# Altium integrated library PCB_STM32F4.IntLib: 74 symbols
Pins are listed as number, name and electrical type; pins without a type are passive.

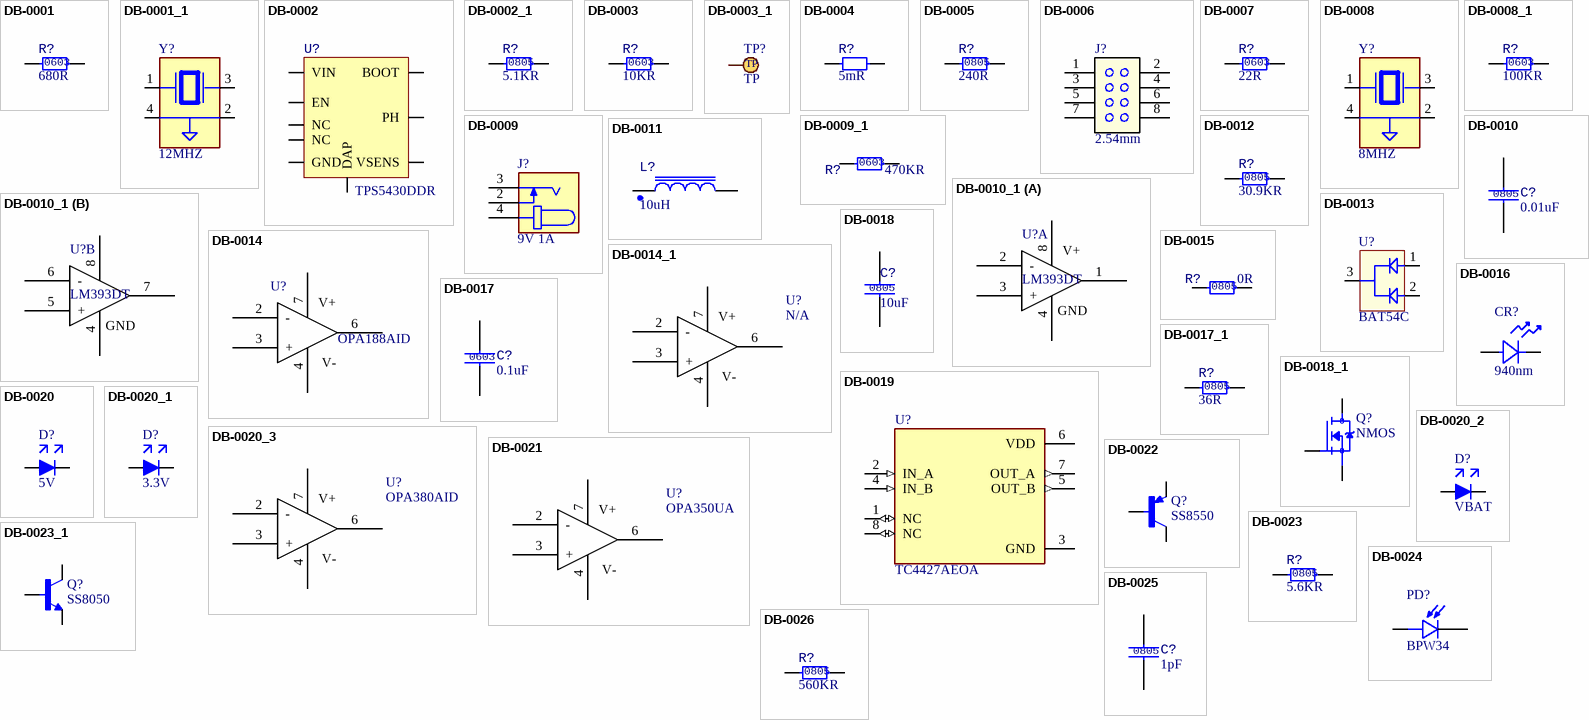
[diagram p0: symbols DB-0001 to DB-0026]

## DB-0001
designator R?, comment Size: 0603  (hidden comment: 680R)
RESISTOR SMD 680R OHM 5% 100mW 0603; Power Rate: 100mW; Design Item ID: DB-0001; Type: RESISTOR; Tolerance: 5%; Footprint Type: SMD; Supplier: THEGIOIIC; Supplier Part Number: Điện Trở 680 Ohm 0603 5%; Supplier Link: https://www.thegioiic.com/dien-tro-680-ohm-0603-5-; Value: 680R
footprint RESC 0603(1608) SMD
pins: 1, 2

## DB-0001_1
designator Y?, comment value 12MHZ  (hidden comment: XTAL_12Mhz)
Design Item ID: DB-0001; Type: XTAL; Footprint Type: SMD; Size: 5033; Supplier: THEGIOIIC; Supplier Link: https://www.thegioiic.com/thach-anh-12mhz-5032-4-chan-smd
footprint XTAL_5032
pins: 1, 2 GND (power), 3 2, 4 GND

## DB-0002
designator U?, comment value TPS5430DDR  (hidden comment: TPS5430DDAR)
TPS543x 3A, Wide Input Range, Step-Down Converter; Footprint Path: .\Database_Library\Library.PcbLib; Design Item ID: DB-0002; Type: IC; Power Rate: N/A; Tolerance: N/A; Footprint Type: SMD; Size: 8-SOIC; Supplier: THEGIOIIC; Supplier Part Number: TPS5430DDAR IC Điều Chỉnh Giảm Áp 3A 8-SOIC; Supplier Link: https://www.thegioiic.com/tps5430ddar-ic-dieu-chinh-giam-ap-3a-8-soic
footprint 8-SOIC
pins: 1 BOOT, 2 NC, 3 NC, 4 VSENS, 5 EN, 6 GND, 7 VIN, 8 PH, 9 DAP

## DB-0002_1
designator R?, comment Size: 0805  (hidden comment: 5.1KR)
Power Rate: *; Design Item ID: DB-0002; Value: 5.1KR; Type: RESISTOR; Footprint Type: SMD; Supplier: THEGIOIIC; Supplier Link: https://www.thegioiic.com/dien-tro-5-1-kohm-0805-1-
footprint RESC 0805 SMD
pins: 1, 2

## DB-0003
designator R?, comment Size: 0603  (hidden comment: 10KR)
RESISTOR SMD 10KR OHM 1% 100mW 0603; Power Rate: 100mW; Design Item ID: DB-0003; Value: 10KR; Type: RESISTOR; Tolerance: 1%; Footprint Type: SMD; Supplier: THEGIOIIC; Supplier Part Number: Điện Trở 10 KOhm 0603 1%; Supplier Link: https://www.thegioiic.com/dien-tro-10-kohm-0603-1-
footprint RESC 0603(1608) SMD
pins: 1, 2

## DB-0003_1
designator TP?, comment value TP  (hidden comment: TEST POINT)
Design Item ID: DB-0003; Type: TP; Footprint Type: THT; Size: 1P0
footprint TP_THT_1P0
pins: 1

## DB-0004
designator R?, comment 5mR
Power Rate: *; Size: ±1%; Design Item ID: DB-0004; Value: 5mR; Footprint Type: THT; Supplier: THEGIOIIC; Supplier Link: https://www.thegioiic.com/dien-tro-sense-0-005-ohm-5mr
footprint RS_P10_D1P5
pins: 1, 2

## DB-0005
designator R?, comment Size: 0805  (hidden comment: 240R)
RESISTOR SMD 240R OHM 1% 100mW 0805; Power Rate: 120mW; Design Item ID: DB-0005; Value: 240R; Type: RESISTOR; Tolerance: 1%; Footprint Type: SMD; Supplier: THEGIOIIC; Supplier Part Number: Điện Trở 240 Ohm 0805 1%; Supplier Link: https://www.thegioiic.com/dien-tro-240-ohm-0805-1-
footprint RESC 0805 SMD
pins: 1, 2

## DB-0006
designator J?, comment value 2.54mm  (hidden comment: HD_2X4_M_V)
Design Item ID: DB-0006; Type: HEADER; Footprint Type: THT; Size: HD_2X4_FM_RA; Supplier: THEGIOIIC; Supplier Link: https://www.thegioiic.com/hang-rao-duc-doi-2-54mm-80-chan-2-hang-cao-11-2mm-xuyen-lo-chan-ma-vang
footprint HD_2X4_2P54_M_V
pins: 1, 2, 3, 4, 5, 6, 7, 8

## DB-0007
designator R?, comment Size: 0603  (hidden comment: 22R)
Power Rate: *; Design Item ID: DB-0007; Value: 22R; Type: RESISTOR; Footprint Type: SMD; Supplier: THEGIOIIC; Supplier Link: https://www.thegioiic.com/dien-tro-22-ohm-0603-1-
footprint RESC 0603(1608) SMD
pins: 1, 2

## DB-0008
designator Y?, comment value 8MHZ  (hidden comment: XTAL_8Mhz)
Design Item ID: DB-0008; Type: XTAL; Footprint Type: SMD; Size: 5033; Supplier: THEGIOIIC; Supplier Link: https://www.thegioiic.com/thach-anh-12mhz-5032-4-chan-smd
footprint XTAL_5032
pins: 1, 2 GND (power), 3 2, 4 GND

## DB-0008_1
designator R?, comment Size: 0603  (hidden comment: 100KR)
RESISTOR SMD 100KR OHM 1% 100mW 0603; Power Rate: 100mW; Value: 100KR; Design Item ID: DB-0008; Type: RESISTOR; Tolerance: 1%; Footprint Type: SMD; Supplier: THEGIOIIC; Supplier Part Number: Điện Trở 100 KOhm 0603 1%; Supplier Link: https://www.thegioiic.com/dien-tro-100-kohm-0603-1-
footprint RESC 0603(1608) SMD
pins: 1, 2

## DB-0009
designator J?, comment 9V 1A
Design Item ID: DB-0009; Value: 9V 1A; Footprint Type: THT; Size: 5525
footprint PW_JACK_DC_5525
pins: 2 4, 3 5, 4 2

## DB-0009_1
designator R?, comment Size: 0603  (hidden comment: 470KR)
RESISTOR SMD 470KR OHM 1% 100mW 0603; Power Rate: 100mW; Design Item ID: DB-0009; Type: RESISTOR; Value: 470KR; Tolerance: 1%; Footprint Type: SMD; Supplier: THEGIOIIC; Supplier Part Number: Điện Trở 470 KOhm 0603 1%; Supplier Link: https://www.thegioiic.com/dien-tro-470-kohm-0603-1-
footprint RESC 0603(1608) SMD
pins: 1, 2

## DB-0010
designator C?, comment Size: 0805  (hidden comment: 0.01uF)
CAPACITOR SMD 0.01uF 50V 10% 0805; Value: 0.01uF; Footprint Path: .\Database_Library\Library.PcbLib; Design Item ID: DB-0010; Type: CAPACITOR; Power Rate: N/A; Tolerance: 10%; Footprint Type: SMD; Supplier: THEGIOIIC; Supplier Part Number: Tụ Gốm 0805 410nF 50V; Supplier Link: https://www.thegioiic.com/tu-gom-0805-10nf-50v
footprint CAPCER 0805 SMD
pins: 1, 2

## DB-0010_1
designator U?, comment LM393DT
Design Item ID: DB-0010; Value: LM393DT; Footprint Type: SMD; Size: 8-SOIC; Supplier: THEGIOIIC
footprint 8-SOIC-OPA
part A pins: 1 OUT 1, 2 -, 3 +, 4 GND, 8 VCC
part B pins: 4 GND, 5 +, 6 -, 7 OUT 2, 8 VCC
part A text: V+

## DB-0011
designator L?, comment 10uH
Cuộn Cảm Dán SMD 8D43-100 10uH 5.5A; Design Item ID: DB-0011; Value: 10uH; Footprint Type: SMD; Size: IND_8D43; Supplier: THEGIOIIC; Supplier Link: https://www.thegioiic.com/cuon-cam-dan-smd-8d43-100-10uh-5-5a
footprint IND_8D43
pins: 1, 2

## DB-0012
designator R?, comment Size: 0805  (hidden comment: 30.9KR)
Điện Trở 30.9 KOhm 0805 1%; Power Rate: *; Design Item ID: DB-0012; Value: 30.9KR; Type: RESISTOR; Footprint Type: SMD; Supplier: THEGIOIIC; Supplier Link: https://www.thegioiic.com/dien-tro-30-9-kohm-0805-1-
footprint RESC 0805 SMD
pins: 1, 2

## DB-0013
designator U?, comment BAT54C
DIODE ARRAY SCHOTTKY 30V SOT23-3; Design Item ID: DB-0013; Value: BAT54C; Type: DIODE SCHOTTKY; Footprint Type: SMD; Size: SOT23; Supplier: THEGIOIIC; Supplier Link: https://www.thegioiic.com/bat54c
footprint SOT23-3
pins: 1, 2, 3

## DB-0014
designator U?, comment OPA188AID
Zero-Drift Amplifier 1 Circuit Rail-to-Rail 8-SOIC; Design Item ID: DB-0014; Value: OPA188AID; Type: IC; Power Rate: N/A; Tolerance: N/A; Footprint Type: SMD; Size: 8-SOIC; Supplier: DIGIKEY; Supplier Part Number: OPA188AID; Supplier Link: https://www.digikey.com/en/products/detail/texas-instruments/OPA188AID/4146941
footprint 8-SOIC-OPA
pins: 2 -, 3 +, 4 GND, 6 OUT 1, 7 VCC
text: V+; V-

## DB-0014_1
designator U?, comment OPA188AID  (value not drawn)
Zero-Drift Amplifier 1 Circuit Rail-to-Rail 8-SOIC; Design Item ID: DB-0014; Value: N/A; Type: IC; Power Rate: N/A; Tolerance: N/A; Footprint Type: SMD; Size: 8-SOIC; Supplier: DIGIKEY; Supplier Part Number: OPA188AID; Supplier Link: https://www.digikey.com/en/products/detail/texas-instruments/OPA188AID/4146941
footprint 8-SOIC-OPA
pins: 2 -, 3 +, 4 GND, 6 OUT 1, 7 VCC
text: V+; V-

## DB-0015
designator R?, comment Size: 0805  (hidden comment: 0R)
Power Rate: *; Design Item ID: DB-0015; Value: 0R; Type: RESISTOR; Footprint Type: SMD; Supplier: THEGIOIIC; Supplier Link: https://www.thegioiic.com/san-pham/dien-tro-dan-smd?prid=21990
footprint RESC 0805 SMD
pins: 1, 2

## DB-0016
designator CR?, comment value 940nm  (hidden comment: LED IR 940nm)
Type: LED IR; Design Item ID: DB-0016; Footprint Type: DIP; Size: THT; Supplier: THEGIOIIC
footprint TSAL6100
pins: A, K

## DB-0017
designator C?, comment Size: 0603  (hidden comment: 0.1uF)
CAPACITOR SMD 0.1uF 50V 10% 0603; Value: 0.1uF; Design Item ID: DB-0017; Type: CAPACITOR; Power Rate: N/A; Tolerance: 10%; Footprint Type: SMD; Supplier: THEGIOIIC; Supplier Part Number: Tụ Gốm 0603 100nF (0.1uF) 25V; Supplier Link: https://www.thegioiic.com/tu-gom-0603-100nf-0-1uf-25v
footprint CAPCER 0805 SMD
pins: 1, 2

## DB-0017_1
designator R?, comment Size: 0805  (hidden comment: 36R)
Power Rate: *; Design Item ID: DB-0017; Value: 36R; Type: RESISTOR; Footprint Type: SMD; Supplier: THEGIOIIC; Supplier Link: https://www.thegioiic.com/dien-tro-36-ohm-0805-5-
footprint RESC 0805 SMD
pins: 1, 2

## DB-0018
designator C?, comment Size: 0805  (hidden comment: 10uF)
CAPACITOR SMD 10uF 25V 10% 0805; Design Item ID: DB-0018; Value: 10uF; Type: CAPACITOR; Power Rate: N/A; Tolerance: 10%; Footprint Type: SMD; Supplier: THEGIOIIC; Supplier Part Number: Tụ Gốm 0805 10uF 25V; Supplier Link: https://www.thegioiic.com/tu-gom-0805-10uf-25v
footprint CAPCER 0603 SMD
pins: 1, 2

## DB-0018_1
designator Q?, comment NMOS
LN2302LT1G MOSFET Kênh N 20V 2.3A SOT-23-3; Design Item ID: DB-0018; Value: NMOS; Type: MOSFET; Footprint Type: SMD; Size: SOT23; Supplier: THEGIOIIC
footprint SOT23-3
pins: 1 G, 2 S, 3 D

## DB-0019
designator U?, comment TC4427AEOA
Design Item ID: DB-0019; Value: TC4427AEOA; Type: IC DRV FET; Footprint Type: SMD; Size: 8-SOIC; Supplier: THEGIOIIC
footprint 8-SOIC-OPA
pins: 1 NC (io), 2 IN_A (in), 3 GND (power), 4 IN_B (in), 5 OUT_B (out), 6 VDD (power), 7 OUT_A (out), 8 NC (io)

## DB-0020
designator D?, comment value 5V  (hidden comment: LED_RED)
Size 2x1.2mm, điện áp 1.8-2.6VDC; Type: LED; Design Item ID: DB-0020; Power Rate: N/A; Tolerance: N/A; Footprint Type: SMD; Size: 0806; Supplier: THEGIOIIC; Supplier Part Number: LED Đỏ 0805 Dán SMD Trong Suốt Harvatek; Supplier Link: https://www.thegioiic.com/led-do-0805-dan-smd-trong-suot-harvatek
footprint LED 0805 SMD
pins: A, C K

## DB-0020_1
designator D?, comment value 3.3V  (hidden comment: LED_RED)
Size 2x1.2mm, điện áp 1.8-2.6VDC; Type: LED; Design Item ID: DB-0020; Power Rate: N/A; Tolerance: N/A; Footprint Type: SMD; Size: 0806; Supplier: THEGIOIIC; Supplier Part Number: LED Đỏ 0805 Dán SMD Trong Suốt Harvatek; Supplier Link: https://www.thegioiic.com/led-do-0805-dan-smd-trong-suot-harvatek
footprint LED 0805 SMD
pins: A, C K

## DB-0020_2
designator D?, comment value VBAT  (hidden comment: LED_RED)
Size 2x1.2mm, điện áp 1.8-2.6VDC; Type: LED; Design Item ID: DB-0020; Power Rate: N/A; Tolerance: N/A; Footprint Type: SMD; Size: 0806; Supplier: THEGIOIIC; Supplier Part Number: LED Đỏ 0805 Dán SMD Trong Suốt Harvatek; Supplier Link: https://www.thegioiic.com/led-do-0805-dan-smd-trong-suot-harvatek
footprint LED 0805 SMD
pins: A, C K

## DB-0020_3
designator U?, comment OPA380AID
Design Item ID: DB-0020; Value: OPA380AID; Footprint Type: SMD; Size: 8-SOIC
footprint 8-SOIC-OPA
pins: 2 -, 3 +, 4 GND, 6 OUT 1, 7 VCC
text: V+; V-

## DB-0021
designator U?, comment OPA350UA
Design Item ID: DB-0021; Value: OPA350UA; Footprint Type: SMD; Size: 8-SOIC
footprint 8-SOIC-OPA
pins: 2 -, 3 +, 4 GND, 6 OUT 1, 7 VCC
text: V+; V-

## DB-0022
designator Q?, comment SS8550
SS8550 Y2 Transistor PNP 25V 1.5A 3 Chân SOT-23; Type: BJT; Design Item ID: DB-0022; Value: SS8550; Footprint Type: SMD; Size: SOT23; Supplier: THEGIOIIC
footprint SOT23-3
pins: 1 B, 2 E, 3 C

## DB-0023
designator R?, comment Size: 0805  (hidden comment: 5.6KR)
RESISTOR SMD 5.6KR OHM 1% 125mW 0805; Power Rate: 125mW; Design Item ID: DB-0023; Value: 5.6KR; Type: RESISTOR; Tolerance: 1%; Footprint Type: SMD; Supplier: THEGIOIIC; Supplier Part Number: Điện Trở 5.6 KOhm 0805 1%; Supplier Link: https://www.thegioiic.com/dien-tro-5-6-kohm-0805-1-
footprint RESC 0805 SMD
pins: 1, 2

## DB-0023_1
designator Q?, comment SS8050
SS8050 Y1 Transistor NPN 25V 1.5A 3 Chân SOT-23; Type: BJT; Design Item ID: DB-0023; Value: SS8050; Footprint Type: SMD; Size: SOT23; Supplier: THEGIOIIC
footprint SOT23-3
pins: 1 B, 2 E, 3 C

## DB-0024
designator PD?, comment BPW34
Design Item ID: DB-0024; Value: BPW34; Type: PD; Footprint Type: DIP; Size: DIP-2
footprint DIP-2
pins: A, C

## DB-0025
designator C?, comment Size: 0805  (hidden comment: 1pF)
Design Item ID: DB-0025; Value: 1pF; Footprint Type: SMD; Supplier: THEGIOIIC
footprint CAPCER 0805 SMD
pins: 1, 2

## DB-0026
designator R?, comment Size: 0805  (hidden comment: 560KR)
Power Rate: *; Design Item ID: DB-0026; Value: 560KR; Footprint Type: SMD; Supplier: THEGIOIIC
footprint RESC 0805 SMD
pins: 1, 2

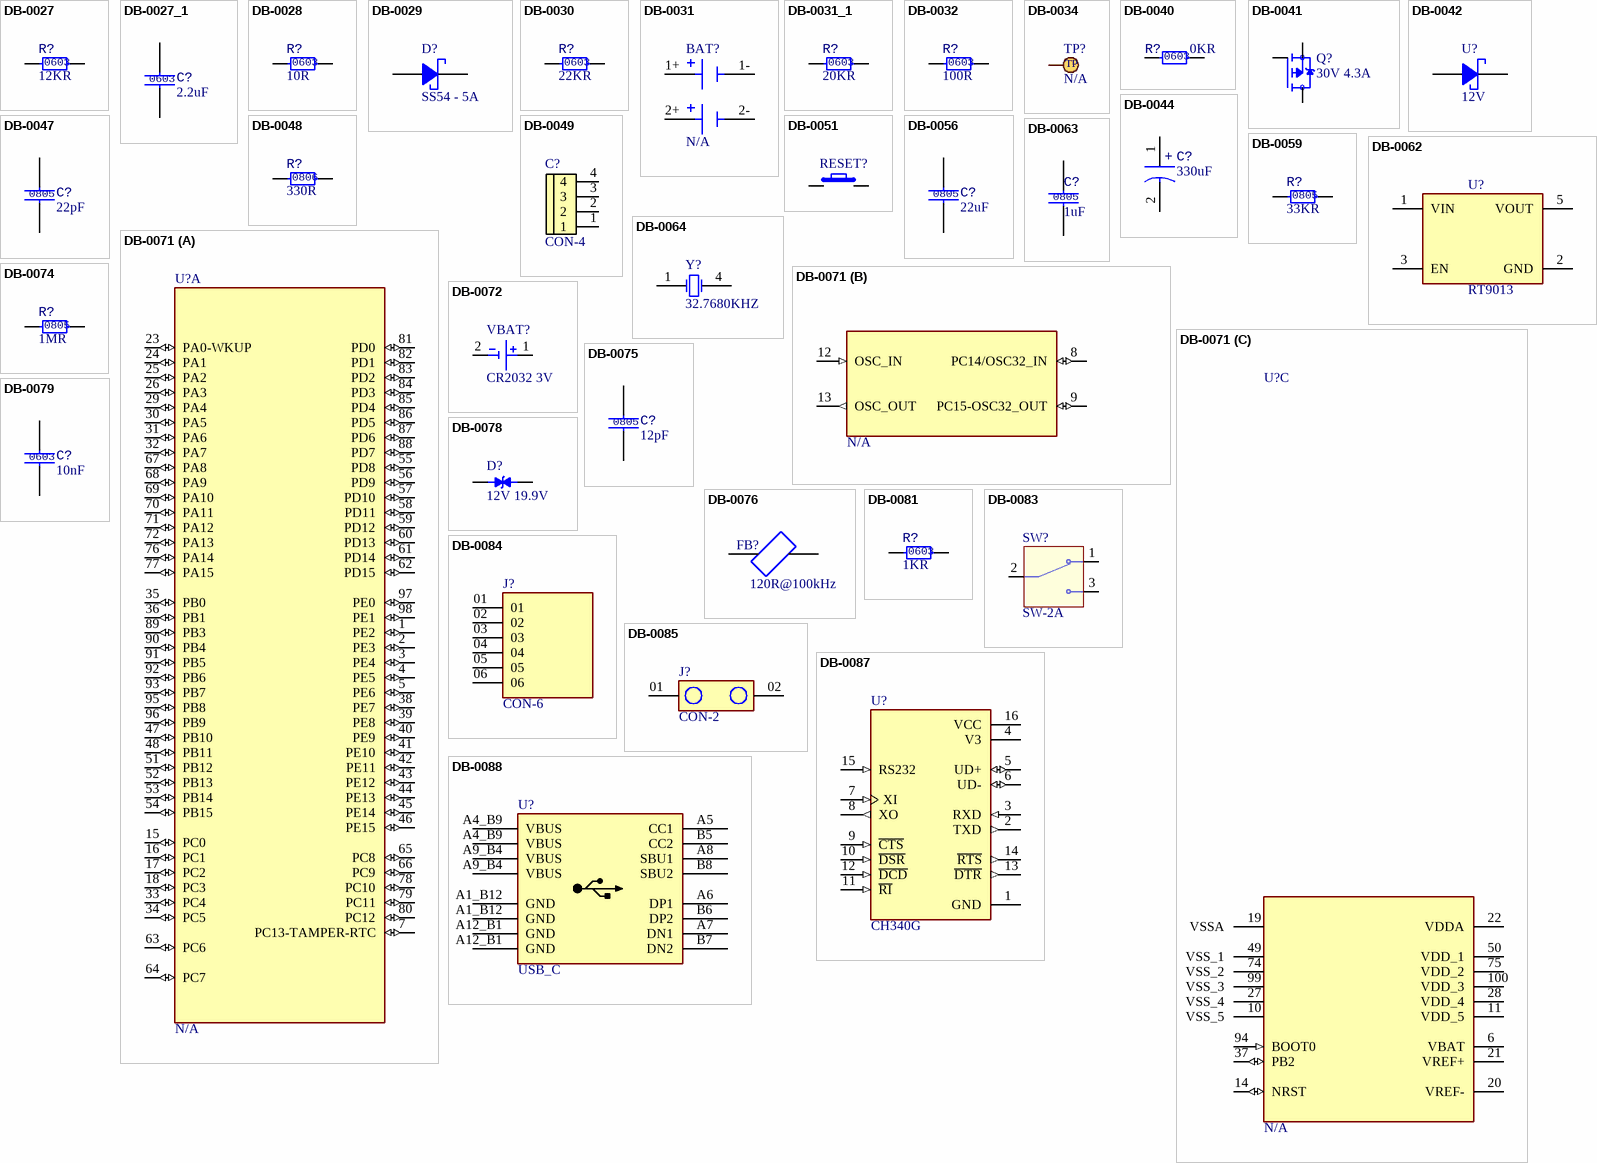
[diagram p1: symbols DB-0027 to DB-0088]

## DB-0027
designator R?, comment Size: 0603  (hidden comment: 12KR)
RESISTOR SMD 12KR OHM 1% 100mW 0603; Power Rate: 100mW; Design Item ID: DB-0027; Value: 12KR; Type: RESISTOR; Tolerance: 1%; Footprint Type: SMD; Supplier: THEGIOIIC; Supplier Part Number: Điện Trở 12 KOhm 0603 1%; Supplier Link: https://www.thegioiic.com/dien-tro-12-kohm-0603-1-
footprint RESC 0603(1608) SMD
pins: 1, 2

## DB-0027_1
designator C?, comment Size: 0603  (hidden comment: 2.2uF)
Tụ Gốm 0603 2.2uF 50V; Design Item ID: DB-0027; Value: 2.2uF; Footprint Type: SMD; Supplier: THEGIOIIC; Supplier Link: https://www.thegioiic.com/tu-gom-0603-2-2uf-50v
footprint CAPCER 0603 SMD
pins: 1, 2

## DB-0028
designator R?, comment Size: 0603  (hidden comment: 10R)
Điện Trở 10 Ohm 0603 1%; Power Rate: *; Design Item ID: DB-0028; Value: 10R; Type: RESISTOR; Footprint Type: SMD; Supplier: THEGIOIIC; Supplier Link: https://www.thegioiic.com/dien-tro-10-ohm-0603-1-
footprint RESC 0603(1608) SMD
pins: 1, 2

## DB-0029
designator D?, comment value SS54 - 5A  (hidden comment: SS54)
Design Item ID: DB-0029; Footprint Type: SMD
footprint DO-214AC
pins: 1 A, 2 K

## DB-0030
designator R?, comment Size: 0603  (hidden comment: 22KR)
Điện Trở 22 KOhm 0603 1%; Power Rate: *; Design Item ID: DB-0030; Value: 22KR; Type: RESISTOR; Footprint Type: SMD; Supplier: THEGIOIIC; Supplier Link: https://www.thegioiic.com/dien-tro-22-kohm-0603-1-
footprint RESC 0603(1608) SMD
pins: 1, 2

## DB-0031
designator BAT?, comment Dual_Battery_Case  (value not drawn)
Dual_Battery_Case_18650; Value: N/A; Footprint Path: .\Database_Library\Library.PcbLib; Design Item ID: DB-0031; Type: Case; Power Rate: N/A; Tolerance: N/A; Footprint Type: TFT; Supplier Link: https://www.thegioiic.com/de-pin-2x18650-han-pcb
footprint Dual_BAT_PCB
pins: 1+, 1-, 2+, 2-

## DB-0031_1
designator R?, comment Size: 0603  (hidden comment: 20KR)
Điện Trở 20 KOhm 0603 1%; Power Rate: *; Design Item ID: DB-0031; Value: 20KR; Type: RESISTOR; Footprint Type: SMD; Supplier: THEGIOIIC; Supplier Link: https://www.thegioiic.com/dien-tro-20-kohm-0603-1-
footprint RESC 0603(1608) SMD
pins: 1, 2

## DB-0032
designator R?, comment Size: 0603  (hidden comment: 100R)
Điện Trở 100 Ohm 0603 1%; Power Rate: *; Design Item ID: DB-0032; Value: 100R; Type: RESISTOR; Footprint Type: SMD; Supplier: THEGIOIIC; Supplier Link: https://www.thegioiic.com/dien-tro-100-ohm-0603-1-
footprint RESC 0603(1608) SMD
pins: 1, 2

## DB-0034
designator TP?, comment TEST_POINT  (value not drawn)
Value: N/A; Design Item ID: DB-0034; Power Rate: N/A; Tolerance: N/A; Footprint Type: PAD; Size: PAD
footprint Test_point
pins: 1
text: TP

## DB-0040
designator R?, comment value 0KR  Size: 0603  (hidden comment: 0R)
RESISTOR SMD 0KR OHM 1% 100mW 0603; Power Rate: 100mW; Design Item ID: DB-0040; Type: RESISTOR; Tolerance: 1%; Footprint Type: SMD; Supplier: THEGIOIIC; Supplier Part Number: Điện Trở 0 Ohm 0603 1%; Supplier Link: https://www.thegioiic.com/dien-tro-0-ohm-0603-1-
footprint RESC 0603(1608) SMD
pins: 1, 2

## DB-0041
designator Q?, comment value 30V 4.3A  (hidden comment: AO3407A)
AO3407A MOSFET Kênh P 30V 4.3A SOT-23-3; Type: P_MOSFET; Design Item ID: DB-0041; Power Rate: N/A; Tolerance: N/A; Footprint Type: SMD; Size: SOT23-3; Supplier: THEGIOIIC; Supplier Part Number: AO3407A MOSFET Kênh P 30V 4.3A SOT-23-3; Supplier Link: https://www.thegioiic.com/ao3407a-mosfet-kenh-p-30v-4-3a-sot-23-3
footprint SOT23-3
pins: 1 G, 2 S, 3 D

## DB-0042
designator U?, comment value 12V  (hidden comment: BZT52H)
BZT52H-C12 Diode Zener 12V 375mW SOD-123F; Tolerance: 5%; Design Item ID: DB-0042; Type: DIODE_ZE; Power Rate: 375mW; Footprint Type: SMD; Size: SOD-123F; Supplier: THEGIOIIC; Supplier Part Number: BZT52H-C12 Diode Zener 12V 375mW SOD-123F; Supplier Link: https://www.thegioiic.com/bzt52c5v1-diode-zener-5-1v-500mw
footprint SOD-123F
pins: 1 A, 2 K

## DB-0044
designator C?, comment 330uF
CAPACITOR ALU SMD 220uF 6.3V 20% 6377; Value: 330uF; Design Item ID: DB-0044; Type: CAPACITOR ALU; Power Rate: N/A; Tolerance: 20%; Footprint Type: SMD; Size: 6377; Supplier: THEGIOIIC; Supplier Part Number: Tụ Nhôm SMD 330uF 6.3V 6.3x7.7mm; Supplier Link: https://www.thegioiic.com/tu-nhom-smd-330uf-6-3v-6-3x7-7mm
footprint CAP ALU 6377
pins: 1, 2
text: +

## DB-0047
designator C?, comment Size: 0805  (hidden comment: 22pF)
CAPACITOR SMD 22pF 50V 10% 0805; Design Item ID: DB-0047; Value: 22pF; Type: CAPACITOR; Power Rate: N/A; Tolerance: 10%; Footprint Type: SMD; Supplier: THEGIOIIC; Supplier Part Number: Tụ Gốm 0805 22pF 50V; Supplier Link: https://www.thegioiic.com/tu-gom-0805-22pf-50v
footprint CAPCER 0805 SMD
pins: 1, 2

## DB-0048
designator R?, comment Size: 0806  (hidden comment: 330R)
RESISTOR SMD 330R OHM 1% 125mW 0805; Power Rate: 125mW; Value: 330R; Design Item ID: DB-0048; Type: RESISTOR; Tolerance: 1%; Footprint Type: SMD; Supplier: THEGIOIIC; Supplier Part Number: Điện Trở 330 Ohm 0805 1%; Supplier Link: https://www.thegioiic.com/dien-tro-330-ohm-0805-1-
footprint RESC 0805 SMD
pins: 1, 2

## DB-0049
designator C?, comment value CON-4  (hidden comment: CONNECTOR_4)
Hàng Rào Đực Đơn 2.54mm 40 Chân 1 Hàng Cao 11.2mm Xuyên Lỗ; Design Item ID: DB-0049; Type: CONNECTOR; Power Rate: N/A; Tolerance: N/A; Footprint Type: TFT; Size: TFT; Supplier: THEGIOIIC; Supplier Part Number: Hàng Rào Đực Đơn 2.54mm 40 Chân 1 Hàng Cao 11.2mm Xuyên Lỗ; Supplier Link: https://www.thegioiic.com/hang-rao-duc-don-2-54mm-40-chan-1-hang-cao-11-2mm-xuyen-lo
footprint CON-4
pins: 1, 2, 3, 4

## DB-0051
designator RESET?, comment BUTTON  (value not drawn)
Nút Nhấn 4x4mm Cao 1.5mm 4 Chân SMD Chống Nước; Value: N/A; Design Item ID: DB-0051; Type: BUTTON; Power Rate: N/A; Tolerance: N/A; Footprint Type: SMD; Size: BUTTON_SMD; Supplier: THEGIOIIC; Supplier Part Number: Nút Nhấn 4x4mm Cao 1.5mm 4 Chân SMD Chống Nước; Supplier Link: https://www.thegioiic.com/nut-nhan-4x4mm-cao-1-5mm-4-chan-smd-chong-nuoc
footprint BUTTON_SMD
pins: 1, 2

## DB-0056
designator C?, comment Size: 0805  (hidden comment: 22uF)
CAPACITOR SMD 22uF 50V 10% 0805; Design Item ID: DB-0056; Type: CAPACITOR; Power Rate: N/A; Value: 22uF; Tolerance: 10%; Footprint Type: SMD; Supplier: THEGIOIIC; Supplier Part Number: Tụ Gốm 0805 22uF 6.3V; Supplier Link: https://www.thegioiic.com/tu-gom-0805-22uf-6-3v
footprint CAPCER 0805 SMD
pins: 1, 2

## DB-0059
designator R?, comment Size: 0805  (hidden comment: 33KR)
RESISTOR SMD 33KR OHM 1% 125mW 0805; Power Rate: 125mW; Value: 33KR; Design Item ID: DB-0059; Type: RESISTOR; Tolerance: 1%; Footprint Type: SMD; Supplier: THEGIOIIC; Supplier Part Number: Điện Trở 24 KOhm 0805 Điện Trở 33 KOhm 0805 1%; Supplier Link: https://www.thegioiic.com/dien-tro-33-kohm-0805-1-
footprint RESC 0805 SMD
pins: 1, 2

## DB-0062
designator U?, comment RT9013
IC REG LINEAR 3.3V 500MA SOT23-5; Value: RT9013; Design Item ID: DB-0062; Type: IC; Power Rate: N/A; Tolerance: N/A; Footprint Type: SMD; Size: SOT-23-5; Supplier: THEGIOIIC; Supplier Part Number: RT9013-33GB IC Ổn Áp 3.3V 500mA SOT-23-5; Supplier Link: https://www.thegioiic.com/rt9013-33gb-ic-on-ap-3-3v-500ma-sot-23-5
footprint SOT-23-5
pins: 1 VIN (power), 2 GND (power), 3 EN, 5 VOUT

## DB-0063
designator C?, comment Size: 0805  (hidden comment: 1uF)
CAPACITOR SMD 1uF 16V 10% 0805; Value: 1uF; Design Item ID: DB-0063; Type: CAPACITOR; Power Rate: N/A; Tolerance: 10%; Footprint Type: SMD; Supplier: THEGIOIIC; Supplier Part Number: Tụ Gốm 0805 1uF 16V; Supplier Link: https://www.thegioiic.com/tu-gom-0805-1uf-16v
footprint CAPCER 0805 SMD
pins: 1, 2

## DB-0064
designator Y?, comment value 32.7680KHZ  (hidden comment: XTAL_32.786K)
CRYSTAL 32.7680KHZ 12.5PF SMD; Design Item ID: DB-0064; Type: XTAL; Power Rate: N/A; Tolerance: N/A; Footprint Type: SMD; Size: 4-SOJ; Supplier: THEGIOIIC; Supplier Part Number: Thạch Anh 32.768KHz MC-306 4 Chân; Supplier Link: https://www.thegioiic.com/thach-anh-32-768khz-mc-306-4-chan
footprint 4-SOJ
pins: 1 OSC1, 4 OSC2

## DB-0071
designator U?, comment STM32F407VET6  (value not drawn)
IC MCU 32BIT 512KB FLASH 100LQFP; Design Item ID: DB-0071; Type: MCU; Power Rate: N/A; Tolerance: N/A; Footprint Type: SMD; Size: 100LQFP; Supplier: THEGIOIIC; Value: N/A
footprint 100LQFP
part A pins: 1 PE2 (io), 2 PE3 (io), 3 PE4 (io), 4 PE5 (io), 5 PE6 (io), 7 PC13-TAMPER-RTC (io), 15 PC0 (io), 16 PC1 (io), 17 PC2 (io), 18 PC3 (io), 23 PA0-WKUP (io), 24 PA1 (io), 25 PA2 (io), 26 PA3 (io), 29 PA4 (io), 30 PA5 (io), 31 PA6 (io), 32 PA7 (io), 33 PC4 (io), 34 PC5 (io), 35 PB0 (io), 36 PB1 (io), 38 PE7 (io), 39 PE8 (io), 40 PE9 (io), 41 PE10 (io), 42 PE11 (io), 43 PE12 (io), 44 PE13 (io), 45 PE14 (io), 46 PE15 (io), 47 PB10 (io), 48 PB11 (io), 51 PB12 (io), 52 PB13 (io), 53 PB14 (io), 54 PB15 (io), 55 PD8 (io), 56 PD9 (io), 57 PD10 (io), 58 PD11 (io), 59 PD12 (io), 60 PD13 (io), 61 PD14 (io), 62 PD15 (io), 63 PC6 (io), 64 PC7 (io), 65 PC8 (io), 66 PC9 (io), 67 PA8 (io), 68 PA9 (io), 69 PA10 (io), 70 PA11 (io), 71 PA12 (io), 72 PA13 (io), 76 PA14 (io), 77 PA15 (io), 78 PC10 (io), 79 PC11 (io), 80 PC12 (io), 81 PD0 (io), 82 PD1 (io), 83 PD2 (io), 84 PD3 (io), 85 PD4 (io), 86 PD5 (io), 87 PD6 (io), 88 PD7 (io), 89 PB3 (io), 90 PB4 (io), 91 PB5 (io), 92 PB6 (io), 93 PB7 (io), 95 PB8 (io), 96 PB9 (io), 97 PE0 (io), 98 PE1 (io)
part B pins: 8 PC14/OSC32_IN (io), 9 PC15-OSC32_OUT (io), 12 OSC_IN (in), 13 OSC_OUT (out)
part C pins: 6 VBAT (power), 10 VSS_5 (power), 11 VDD_5 (power), 14 NRST (io), 19 VSSA (power), 20 VREF- (power), 21 VREF+ (power), 22 VDDA (power), 27 VSS_4 (power), 28 VDD_4 (power), 37 PB2 (io), 49 VSS_1 (power), 50 VDD_1 (power), 74 VSS_2 (power), 75 VDD_2 (power), 94 BOOT0 (in), 99 VSS_3 (power), 100 VDD_3 (power)

## DB-0072
designator VBAT?, comment value CR2032 3V  (hidden comment: HOL CR2032)
BS-6 Đế Pin CR2032 CR2025 Dán SMD; Design Item ID: DB-0072; Type: HOLDER BAT; Power Rate: N/A; Tolerance: N/A; Footprint Type: SMD; Size: SMD; Supplier: THEGIOIIC; Supplier Part Number: BS-6 Đế Pin CR2032 CR2025 Dán SMD; Supplier Link: https://www.thegioiic.com/bs-6-de-pin-cr2032-cr2025-dan-smd
footprint HOLDER BAT
pins: 1 POS, 2 NEG

## DB-0074
designator R?, comment value 1MR  Size: 0805  (hidden comment: Điện Trở 1 MOhm 0805 1%)
RESISTOR SMD 1 MOHM 1% 100mW 0805; Power Rate: 100mW; Design Item ID: DB-0074; Type: RESISTOR; Tolerance: 1%; Footprint Type: SMD; Supplier: THEGIOIIC; Supplier Part Number: Điện Trở 1 MOhm 0805 1%; Supplier Link: https://www.thegioiic.com/dien-tro-1-mohm-0805-1-
footprint CAPCER 0805 SMD
pins: 1, 2

## DB-0075
designator C?, comment Size: 0805  (hidden comment: 12pF)
CAPACITOR SMD 12pF 50V 10% 0805; Design Item ID: DB-0075; Type: CAPACITOR; Power Rate: N/A; Value: 12pF; Tolerance: 10%; Footprint Type: SMD; Supplier: THEGIOIIC; Supplier Part Number: Tụ Gốm 0805 12pF 50V; Supplier Link: https://www.thegioiic.com/tu-gom-0805-4-7uf-50v
footprint CAPCER 0805 SMD
pins: 1, 2

## DB-0076
designator FB?, comment 120R@100kHz
CBW201209U121T Ferrite Beads 2A 120 Ohm 0805; Design Item ID: DB-0076; Value: 120R@100kHz; Type: FERRITE BEADS; Power Rate: N/A; Tolerance: N/A; Footprint Type: SMD; Size: 0805; Supplier: THEGIOIIC; Supplier Part Number: CBW201209U121T Ferrite Beads 2A 120 Ohm 0805; Supplier Link: https://www.thegioiic.com/cbw201209u121t-ferrite-beads-2a-120-ohm-0805
footprint FB 0805
pins: 1, 2

## DB-0078
designator D?, comment value 12V 19.9V  (hidden comment: SMAJ12A)
TVS DIODE 12V 19.9V DO214AC; Design Item ID: DB-0078; Type: DIODE; Power Rate: N/A; Tolerance: N/A; Footprint Type: SMD; Size: SMA; Supplier: DIGIKEY; Supplier Part Number: TVS DIODE 5VWM 9.2VC SMA; Supplier Link: https://www.digikey.com/en/products/detail/diodes-incorporated/smaj5-0a-13/278666
footprint DO-214AC
pins: 1, 2

## DB-0079
designator C?, comment value 10nF  Size: 0603  (hidden comment: Tụ Gốm 0603 10nF 50V)
CAPACITOR SMD 0.01uF 50V 10% 0603; Design Item ID: DB-0079; Type: CAPACITOR; Power Rate: N/A; Tolerance: 10%; Footprint Type: SMD; Supplier: THEGIOIIC; Supplier Part Number: Tụ Gốm 0603 10nF 50V; Supplier Link: https://www.thegioiic.com/tu-gom-0603-100nf-0-1uf-25v
footprint CAPCER 0805 SMD
pins: 1, 2

## DB-0081
designator R?, comment Size: 0603  (hidden comment: 1KR)
RESISTOR SMD 1KR OHM 1% 100mW 0603; Power Rate: 100mW; Design Item ID: DB-0081; Value: 1KR; Type: RESISTOR; Tolerance: 1%; Footprint Type: SMD; Supplier: THEGIOIIC; Supplier Part Number: Điện Trở 1 KOhm 0603 1%; Supplier Link: https://www.thegioiic.com/dien-tro-1-kohm-0603-1-
footprint RESC 0603(1608) SMD
pins: 1, 2

## DB-0083
designator SW?, comment value SW-2A  (hidden comment: SW 2A)
SS-12F23G4 Công Tắc Trượt 5 Chân Xuyên Lỗ ON-OFF Chỉnh Ngang 1P2T 2A; Design Item ID: DB-0083; Type: SLIDE SWITCH; Power Rate: 2A; Tolerance: N/A; Footprint Type: TFT; Size: SW-TH; Supplier: THEGIOIIC; Supplier Part Number: SS-12F23G4 Công Tắc Trượt 5 Chân Xuyên Lỗ ON-OFF Chỉnh Ngang 1P2T 2A; Supplier Link: https://www.thegioiic.com/ss-12f23g4-cong-tac-truot-5-chan-xuyen-lo-on-off-chinh-ngang-1p2t-2a
footprint SLIDE-SW
pins: 1, 2, 3

## DB-0084
designator J?, comment value CON-6  (hidden comment: CONNECTOR_6)
Hàng Rào Đực Đơn 2.54mm 40 Chân 1 Hàng Cao 11.2mm Xuyên Lỗ; Design Item ID: DB-0084; Type: CONNECTOR; Power Rate: N/A; Tolerance: N/A; Footprint Type: TFT; Size: TFT; Supplier: THEGIOIIC; Supplier Part Number: Hàng Rào Đực Đơn 2.54mm 40 Chân 1 Hàng Cao 11.2mm Xuyên Lỗ; Supplier Link: https://www.thegioiic.com/hang-rao-duc-don-2-54mm-40-chan-1-hang-cao-11-2mm-xuyen-lo
footprint CON-6
pins: 01, 02, 03, 04, 05, 06

## DB-0085
designator J?, comment value CON-2  (hidden comment: CONNECTOR_2)
Hàng Rào Đực Đơn 2.54mm 40 Chân 1 Hàng Cao 11.2mm Xuyên Lỗ; Design Item ID: DB-0085; Type: CONNECTOR; Power Rate: N/A; Tolerance: N/A; Footprint Type: TFT; Size: TFT; Supplier: THEGIOIIC; Supplier Part Number: Hàng Rào Đực Đơn 2.54mm 40 Chân 1 Hàng Cao 11.2mm Xuyên Lỗ; Supplier Link: https://www.thegioiic.com/hang-rao-duc-don-2-54mm-40-chan-1-hang-cao-11-2mm-xuyen-lo
footprint CON-2
pins: 01, 02

## DB-0087
designator U?, comment CH340G
Design Item ID: DB-0087; Value: CH340G
footprint SOP-16
pins: 1 GND (power), 2 TXD (out), 3 RXD (in), 4 V3 (power), 5 UD+ (io), 6 UD- (io), 7 XI (in), 8 XO (out), 9 ~{CTS} (in), 10 ~{DSR} (in), 11 ~{RI} (in), 12 ~{DCD} (in), 13 ~{DTR} (out), 14 ~{RTS} (out), 15 RS232 (in), 16 VCC (power)

## DB-0088
designator U?, comment value USB_C  (hidden comment: USB_TYPE_C)
Design Item ID: DB-0088; Type: USB
footprint TYPEC-16POS
pins: A1_B12 GND, A1_B12 GND, A4_B9 VBUS, A4_B9 VBUS, A5 CC1, A6 DP1, A7 DN1, A8 SBU1, A9_B4 VBUS, A9_B4 VBUS, A12_B1 GND, A12_B1 GND, B5 CC2, B6 DP2, B7 DN2, B8 SBU2